# Altium schematic symbol library CD4051BM.SchLib: 1 symbol
Pins are listed as number, name and electrical type; pins without a type are passive.

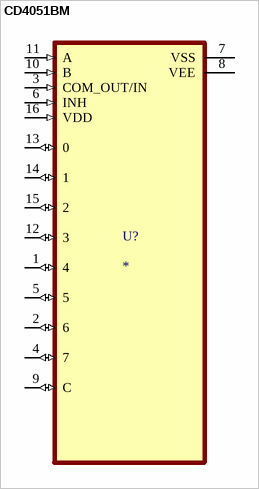
[diagram p0: symbol CD4051BM]

## CD4051BM
designator U?
MF: {'manufacturer': u'Texas Instruments'}; MP: CD4051BM; Package: None; Value: *; Availability: Unavailable; Price: None
footprint SOIC127P600X175-16N
pins: 1 4 (io), 2 6 (io), 3 COM_OUT/IN (in), 4 7 (io), 5 (io), 6 INH (in), 7 VSS (power), 8 VEE (power), 9 C (io), 10 B (in), 11 A (in), 12 3 (io), 13 0 (io), 14 1 (io), 15 2 (io), 16 VDD (in)